# Altium schematic symbol library CM2009.SchLib: 2 symbols
Pins are listed as number, name and electrical type; pins without a type are passive.

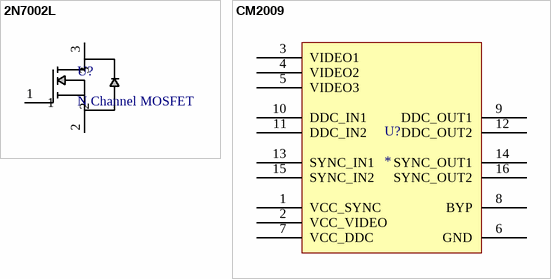
[diagram p0: symbols 2N7002L to CM2009]

## 2N7002L
designator U?, comment N Channel MOSFET
60 V, 115mA, N-Channel SOT-23; Supplier Part Number: 2N7002LT1GOSCT-ND; Supplier: Digikey
footprint SOT-23 CASE 318 STYLE 21
pins: 1, 2, 3

## CM2009
designator U?
VGA ESD Protection; Model: CM2009
footprint SOP64P630X173-16N (SOP, 16-Leads, Body 5.0x4.0mm (max), Pitch 0.64mm, IPC Medium Density)
pins: 1 VCC_SYNC, 2 VCC_VIDEO, 3 VIDEO1, 4 VIDEO2, 5 VIDEO3, 6 GND, 7 VCC_DDC, 8 BYP, 9 DDC_OUT1, 10 DDC_IN1, 11 DDC_IN2, 12 DDC_OUT2, 13 SYNC_IN1, 14 SYNC_OUT1, 15 SYNC_IN2, 16 SYNC_OUT2